# Altium schematic symbol library MBRM120LT3G.SchLib: 2 symbols
Pins are listed as number, name and electrical type; pins without a type are passive.

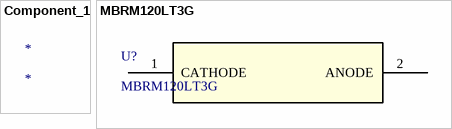
[diagram p0: symbols Component_1 to MBRM120LT3G]

## Component_1
designator *

## MBRM120LT3G
designator U?
No Description Available; Mfr_Name: onsemi; Copyright: Copyright (C) 2024 Ultra Librarian. All rights reserved.; Manufacturer_Part_Number: MBRM120LT3G; RefDes: RefDes; Type: DEV
footprint DO-216AA_ONS
pins: 1 CATHODE, 2 ANODE